# Altium footprint library 封装.PcbLib: 33 footprints (part 2 of 3)
Each footprint in its own frame and in the unit in brackets; x right, y up, seen from the top. Pads: shape width x height; smd on the part's side, far side on the other; paste and mask are expansions set on the pad; w line width, h text height; cw(c..) or ccw(c..) is an arc to the next point about the centre after c.
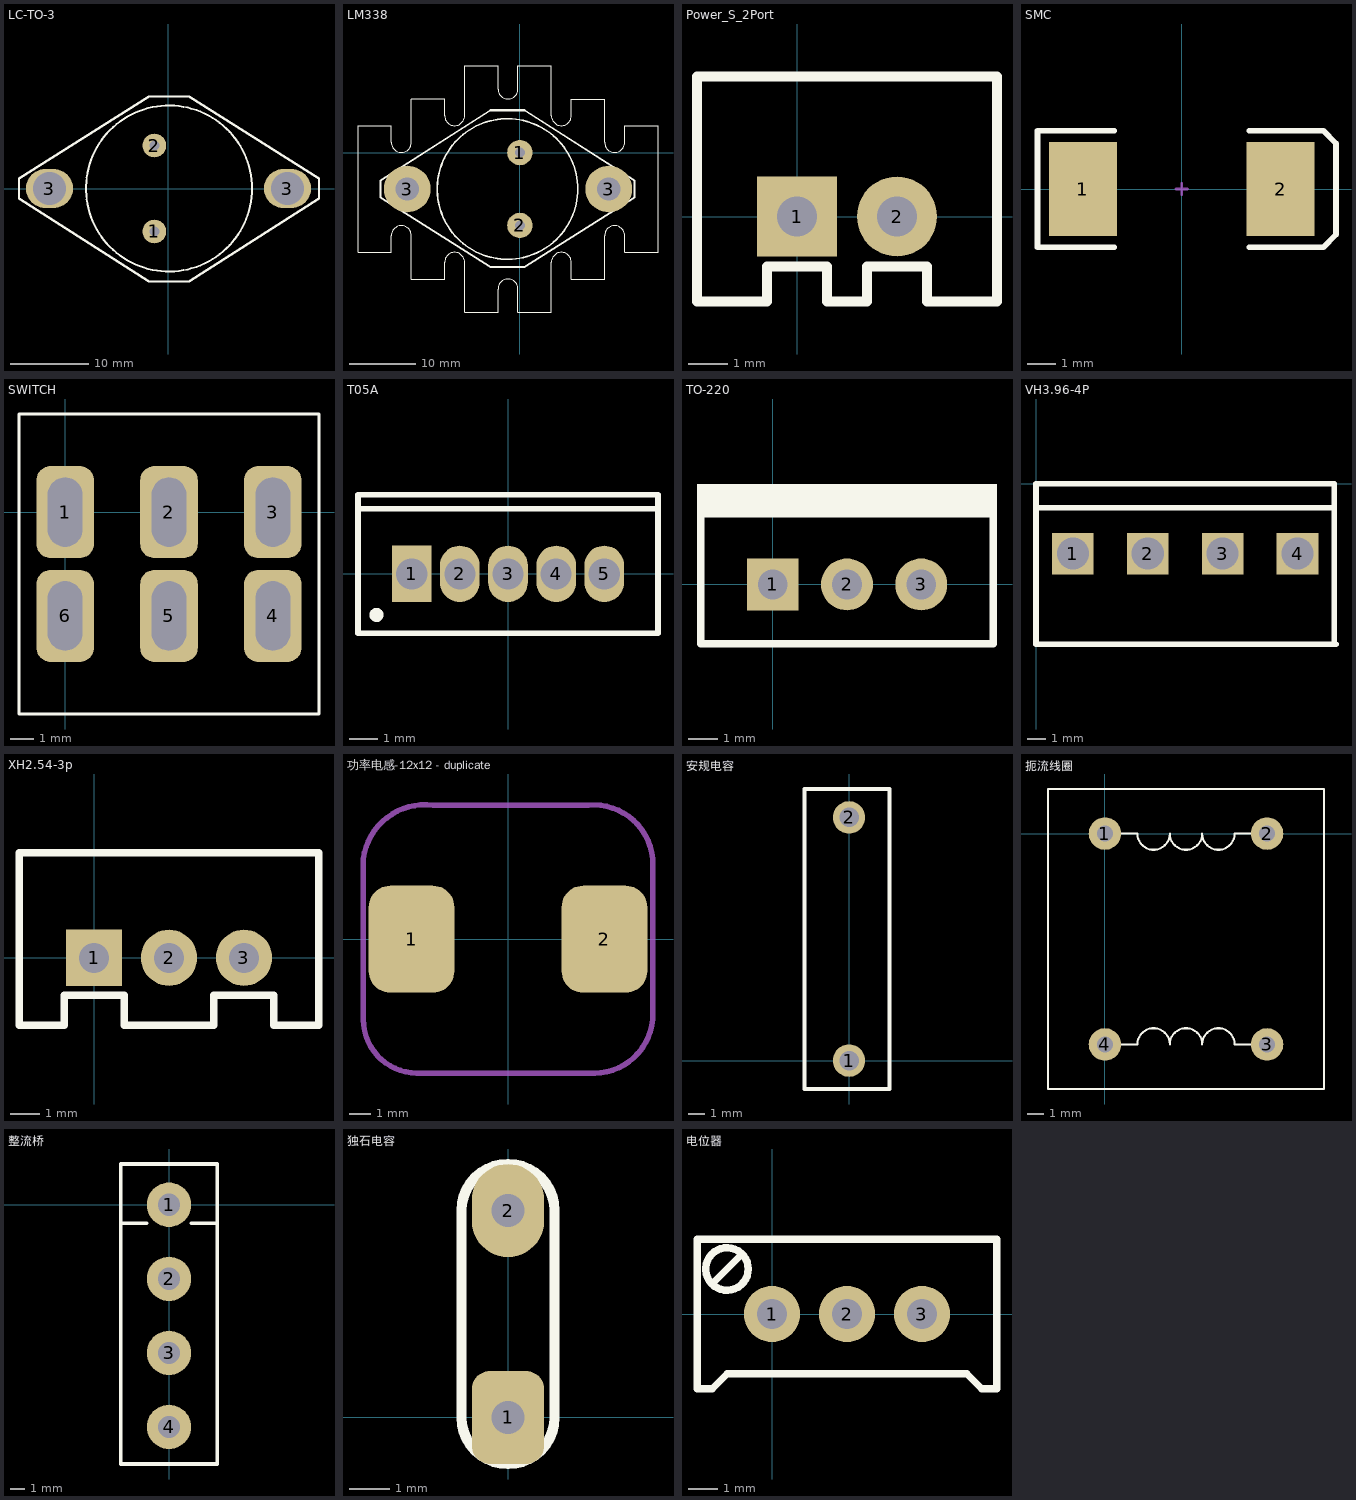
[diagram p1: the footprints below, top view; thin cyan lines are the x and y axes]

## LC-TO-3 [mm]
pads (4):
  round 3 hole 1.3: 1(-1.778,-5.461) 2(-1.778,5.461)
  oval 6x5 hole 4.2: 3(-15.113,0) 3(15.113,0)
Top Overlay:
  circle w0.254: c0.076,0 r10.541
  lines w0.305: -18.974,-1.27 -2.464,-11.811 2.616,-11.811 19.126,-1.27 19.126,1.27 2.616,11.684 -2.464,11.684 -18.974,1.27 -18.974,-1.27
3D body "User Library-TO-3_Long.STEP": height 8.5, standoff -12, extent -19.757,-13.089 19.833,13.089

## LM338 [mm]
pads (4):
  round 3.81 hole 1.5: 1(0,0) 2(0,-10.922)
  round 7 hole 3.5: 3(-16.891,-5.461) 3(13.335,-5.461)
Top Overlay:
  circle w0.254: c13.335,-5.461 r2.413
  circle w0.254: c-16.891,-5.461 r2.413
  circle w0.254: c-1.854,-5.461 r10.541
  lines w0.127: -19.278,-14.961 -24.278,-14.961 -24.278,4.039 -19.279,4.039 -19.279,1.54 ; -19.277,-14.96 -19.277,-12.461 cw(c-17.778,-12.461) -16.279,-12.461 ; -19.277,1.539 ccw(c-17.778,1.539) -16.279,1.539 ; -16.279,8.04 -11.279,8.04 -11.279,5.54 ; -16.278,-12.462 -16.278,-18.961 -11.278,-18.961 ; -16.278,1.539 -16.278,8.039 ; -11.277,-18.96 -11.277,-16.461 cw(c-9.778,-16.461) -8.279,-16.461 ; -11.278,5.539 ccw(c-9.779,5.539) -8.279,5.539 -8.279,13.038 ; -8.278,-16.462 -8.278,-23.961 -3.278,-23.961 ; -8.278,13.039 -3.278,13.039 -3.278,9.539 ccw(c-1.779,9.539) -0.279,9.539 -0.279,13.039 ; -3.277,-23.96 -3.277,-20.461 cw(c-1.778,-20.461) -0.279,-20.461 -0.278,-23.961 4.722,-23.961 ; -0.279,13.04 4.721,13.04 4.721,5.54 ; 4.723,-23.96 4.723,-16.461 cw(c6.222,-16.461) 7.721,-16.461 ; 4.723,5.539 ccw(c6.222,5.539) 7.721,5.539 7.721,8.038 ; 7.722,-16.462 7.722,-18.961 12.722,-18.961 ; 7.722,8.039 12.722,8.039 12.722,1.54 ; 12.723,-18.96 12.723,-12.461 cw(c14.222,-12.461) 15.721,-12.461 15.721,-14.96 ; 12.723,1.539 ccw(c14.222,1.539) 15.721,1.539 15.721,4.038 ; 15.722,-14.961 20.722,-14.961 20.722,4.039 15.722,4.039
  lines w0.305: -20.904,-6.731 -20.904,-4.191 -4.394,6.35 0.686,6.35 17.196,-4.191 17.196,-6.731 0.686,-17.145 -4.394,-17.145 -20.904,-6.731
3D body "User Library-LM317_TO3.STEP": height 8.8, standoff -10.8, extent -21.254,-18.034 17.546,6.966

## Power_S_2Port [mil]
pads (2):
  rect 80x80 hole 40: 1(0,0)
  round 80 hole 40: 2(100,0)
Top Overlay:
  lines w10: -100,-85 -30,-85 -30,-50 30,-50 30,-85 70,-85 70,-50 130,-50 130,-85 200,-85 200,140 -100,140 -100,-85

## SMC [mm] "DO-214-AB/SMC; 2 C-Bend Leads; Body 7.9 x 5.9 mm, inc. leads (LxW)"
height 2.65
pads (2):
  rect 2.4x3.3 smd: 1(-3.475,0) 2(3.475,0)
Top Overlay:
  lines w0.2: -2.375,-2.05 -5.075,-2.05 -5.075,2.05 -2.375,2.05 ; 2.375,-2.05 4.975,-2.05 5.425,-1.6 5.425,1.6 4.975,2.055 ; 2.375,2.05 4.975,2.05
Mechanical 1:
  lines w0.1: -0.2,0 0.2,0 ; 0,-0.2 0,0.2

## SWITCH [mm]
pads (6):
  rrect50% 2.5x4 hole 1.5 slot 3 at 90 deg: 1(0,0) 2(4.5,0) 3(9,0) 4(9,-4.5) 5(4.5,-4.5) 6(0,-4.5)
Top Overlay:
  lines w0.127: -2,-8.75 -2,-2.25 -2,4.25 4.5,4.25 11,4.25 11,-8.75 -2,-8.75
3D body "SW3dPS-SW-113.STEP": height 30.58, standoff -3.96, extent -1.85,-8.181 10.85,3.63

## T05A [mm] "TO, Thru-Hole, Vertical, Heatsink Mounted; 5 In-Line Leads; Pitch 1.70 mm"
height 19.6
pads (5):
  rect 1.4x2 hole 1.1: 1(-3.4,0)
  oval 1.4x2 hole 1.1: 2(-1.7,0) 3(0,0) 4(1.7,0) 5(3.4,0)
Top Overlay:
  circle w0.25: c-4.65,-1.45 r0.125
  lines w0.2: -5.3,2.3 5.3,2.3 ; -5.3,-2.1 5.3,-2.1 5.3,2.8 -5.3,2.8 -5.3,-2.1
Mechanical 13:
  lines w0.1: -5.3,2.3 5.3,2.3 ; -5.3,-2.1 -5.3,2.8 5.3,2.8 5.3,-2.1 -5.3,-2.1 ; -3.91,-0.28 -3.91,0.28 -2.89,0.28 -2.89,-0.28 -3.91,-0.28 ; -2.21,-0.28 -2.21,0.28 -1.19,0.28 -1.19,-0.28 -2.21,-0.28 ; -0.51,-0.28 -0.51,0.28 0.51,0.28 0.51,-0.28 -0.51,-0.28 ; 1.19,-0.28 1.19,0.28 2.21,0.28 2.21,-0.28 1.19,-0.28 ; 2.89,-0.28 2.89,0.28 3.91,0.28 3.91,-0.28 2.89,-0.28
Mechanical 15:
  lines w0.1: -0.5,0 0.5,0 ; 0,-0.5 0,0.5
3D body: height 13, standoff 4.1, extent -5.35,-2.15 5.35,2.85
3D body: height 19.6, standoff 13, extent -5.299,2.301 5.299,2.799
3D body: height 4.1, standoff 0, extent -3.909,-0.279 -2.891,0.279
3D body: height 4.1, standoff 0, extent -2.209,-0.279 -1.191,0.279
3D body: height 4.1, standoff 0, extent 1.191,-0.279 2.209,0.279
3D body: height 4.1, standoff 0, extent 2.891,-0.279 3.909,0.279
3D body: height 4.1, standoff 0, extent -0.509,-0.279 0.509,0.279

## TO-220 [mil]
pads (3):
  rect 70x70 hole 40: 1(0,0)
  round 70 hole 40: 2(100,0) 3(200,0)
Top Overlay:
  rectangle: -102,95 302,135
  lines w10: -97,-80 297,-80 297,95 -97,95 -97,-80

## VH3.96-4P [mm]
pads (4):
  rect 2.2x2.2 hole 1.7: 1(1.95,-3.7) 2(5.91,-3.7) 3(9.87,-3.7) 4(13.83,-3.7)
Top Overlay:
  lines w0.3: 0,-1.27 15.78,-1.27 ; 15.78,-8.414 15.78,0 0,0 0,-8.5 15.866,-8.5

## XH2.54-3p [mil]
pads (3):
  rect 75x75 hole 40: 1(0,0)
  round 75 hole 40: 2(100,0) 3(200,0)
Top Overlay:
  lines w10: -100,-90 -40,-90 -40,-50 40,-50 40,-90 160,-90 160,-50 240,-50 240,-90 300,-90 300,140 -100,140 -100,-90

## 功率电感-12x12 - duplicate [mm]
pads (2):
  rrect50% 4x5 smd: 1(-4.5,0) 2(4.5,0)
Mechanical 15:
  lines w0.254: -6.75,-3.75 ccw(c-4.25,-3.75) -4.25,-6.25 3.75,-6.25 ccw(c4,-3.5) 6.75,-3.75 6.75,3.75 ccw(c4,3.5) 3.75,6.25 -3.5,6.25 ccw(c-3.875,3.375) -6.75,3.75 -6.75,-3.75
3D body: height 8, standoff 0, extent -6.084,-6.149 6.215,6.15

## 固定过孔 [mm]
via 0,0 diameter 5 hole 3

## 安规电容 [mm]
pads (2):
  round 2 hole 1.2: 1(0,0) 2(0,15)
Top Overlay:
  lines w0.254: -2.75,-1.75 -2.75,16.75 2.5,16.75 2.5,-1.75 -2.75,-1.75
3D body: height 13, standoff 0, extent -2.75,-1.75 2.6,16.75

## 扼流线圈 [mm]
pads (4):
  round 2 hole 1: 1(0,0) 2(10,0) 3(10,-13) 4(0,-13)
Top Overlay:
  lines w0.127: 0,-13 2,-13 cw(c3,-13) 4,-13 cw(c5,-13) 6,-13 cw(c7,-13) 8,-13 10,-13 ; 0,0 2,0 ccw(c3,0) 4,0 ccw(c5,0) 6,0 ccw(c7,0) 8,0 10,0 ; -3.5,-15.75 13.5,-15.75 13.5,2.75 -3.5,2.75 -3.5,-15.75

## 整流桥 [mm]
pads (4):
  round 3 hole 1.5: 1(0,0) 2(0,-5) 3(0,-10) 4(0,-15)
Top Overlay:
  lines w0.254: -3.25,-1.25 -1.5,-1.25 ; 1.5,-1.25 3.25,-1.25 ; -3.25,-17.5 -3.25,-14 -3.25,2.75 3.25,2.75 3.25,-17.5 -3.25,-17.5

## 独石电容 [mil]
pads (2):
  rrect50% 70x90 hole 32: 1(0,0)
  oval 70x90 hole 32: 2(0,200)
Top Overlay:
  lines w10: -45,0 ccw(c0,0) 45,0 45,200 ccw(c0,200) -45,200 -45,0
3D body "User Library-6mm radial ceramic disc capacitor.STEP": height 334.65, standoff -988.96, extent -77,-18.11 72.61,218.11

## 电位器 [mil]
pads (3):
  round 75 hole 40: 1(0,0) 2(100,0) 3(200,0)
Top Overlay:
  circle w10: c-60,60 r28.28
  lines w10: -80,40 -40,80 ; -100,-100 -100,100 300,100 300,-100 280,-100 260,-80 -60,-80 -80,-100 -100,-100